# EAGLE library part LTC6906CS6TRPBF (library LTC6906)
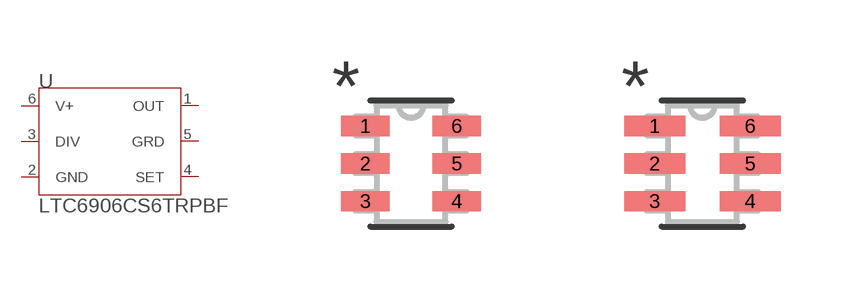
[diagram p0: symbol with the pads of TSOT-23_6_ADI; footprints TSOT-23_6_ADI, TSOT-23_6_ADI-M]

Designator prefix U

## LTC6906CS6TRPBF (COPYRIGHT: Copyright (C) 2021 Ultra Librarian. All rights reserved.; DIGI-KEY_PART_NUMBER_1: LTC6906CS6#TRPBFCT-ND; DIGI-KEY_PART_NUMBER_2: LTC6906CS6#TRPBFDKR-ND; DIGI-KEY_PART_NUMBER_3: LTC6906CS6#TRPBFTR-ND; MANUFACTURER_PART_NUMBER: LTC6906CS6#TRPBF; MFR_NAME: Analog Devices Inc)  [TSOT-23_6_ADI]
1  OUT  out
2  GND  pas
3  DIV  pas
4  SET  pas
5  GRD  pas
6  V+  pwr

## LTC6906CS6TRPBFTSOT-23_6_ADI-M (COPYRIGHT: Copyright (C) 2021 Ultra Librarian. All rights reserved.; DIGI-KEY_PART_NUMBER_1: LTC6906CS6#TRPBFCT-ND; DIGI-KEY_PART_NUMBER_2: LTC6906CS6#TRPBFDKR-ND; DIGI-KEY_PART_NUMBER_3: LTC6906CS6#TRPBFTR-ND; MANUFACTURER_PART_NUMBER: LTC6906CS6#TRPBF; MFR_NAME: Analog Devices Inc)  [TSOT-23_6_ADI-M]
Pads as for TSOT-23_6_ADI

## LTC6906CS6TRPBFTSOT-23_6_ADI-L (COPYRIGHT: Copyright (C) 2021 Ultra Librarian. All rights reserved.; DIGI-KEY_PART_NUMBER_1: LTC6906CS6#TRPBFCT-ND; DIGI-KEY_PART_NUMBER_2: LTC6906CS6#TRPBFDKR-ND; DIGI-KEY_PART_NUMBER_3: LTC6906CS6#TRPBFTR-ND; MANUFACTURER_PART_NUMBER: LTC6906CS6#TRPBF; MFR_NAME: Analog Devices Inc)  [TSOT-23_6_ADI-L]
Pads as for TSOT-23_6_ADI

## Footprint TSOT-23_6_ADI (pad centres in mm)
smd 1.219 x 0.508: 1 -1.143,0.94; 2 -1.143,0; 3 -1.143,-0.94; 4 1.143,-0.94; 5 1.143,0; 6 1.143,0.94

## Footprint TSOT-23_6_ADI-M (pad centres in mm)
smd 1.524 x 0.508: 1 -1.194,0.94; 2 -1.194,0; 3 -1.194,-0.94; 4 1.194,-0.94; 5 1.194,0; 6 1.194,0.94

## Footprint TSOT-23_6_ADI-L (pad centres in mm)
smd 0.914 x 0.457: 1 -1.092,0.94; 2 -1.092,0; 3 -1.092,-0.94; 4 1.092,-0.94; 5 1.092,0; 6 1.092,0.94